# Altium schematic symbol library ICs.SchLib: 5 symbols
Pins are listed as number, name and electrical type; pins without a type are passive.

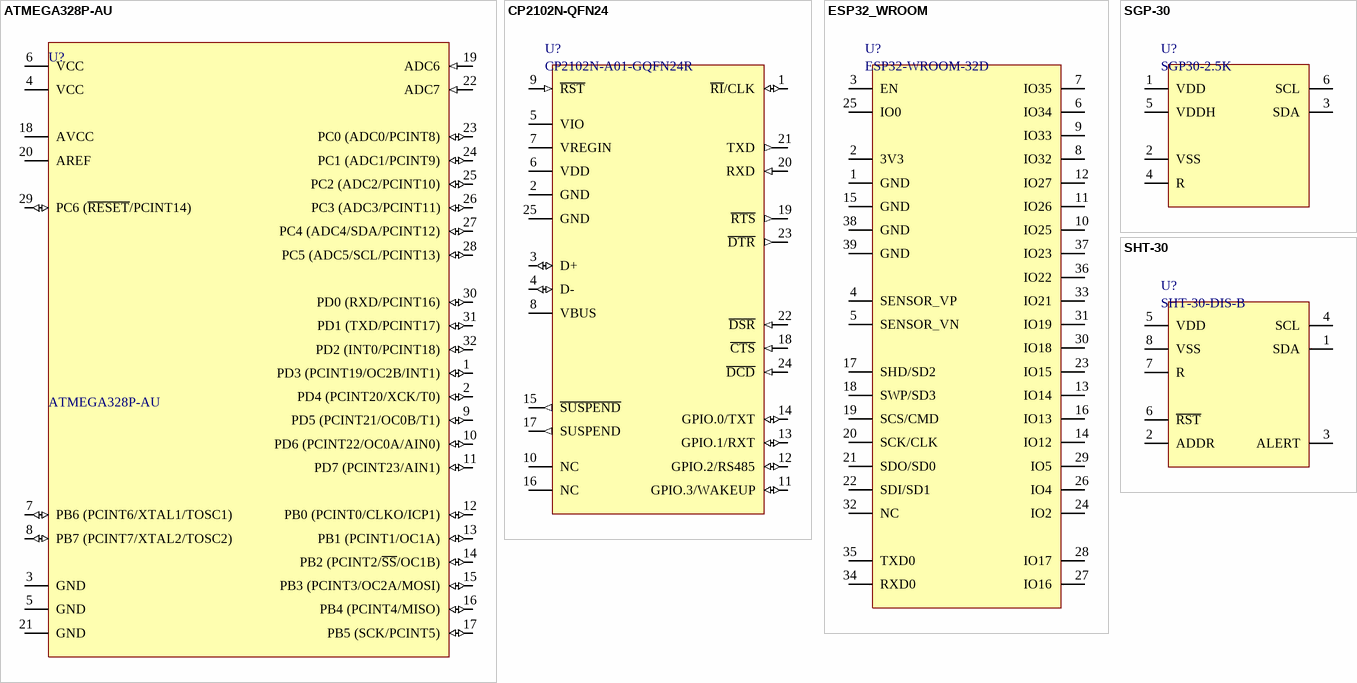
[diagram p0: symbols ATMEGA328P-AU to SHT-30]

## ATMEGA328P-AU
designator U?
footprint TQFP-32 (Thin QFP, 32-Leads, Body 7x7mm, Pitch 0.8mm, IPC Medium Density)
pins: 1 PD3 (PCINT19/OC2B/INT1) (io), 2 PD4 (PCINT20/XCK/T0) (io), 3 GND (power), 4 VCC (power), 5 GND (power), 6 VCC (power), 7 PB6 (PCINT6/XTAL1/TOSC1) (io), 8 PB7 (PCINT7/XTAL2/TOSC2) (io), 9 PD5 (PCINT21/OC0B/T1) (io), 10 PD6 (PCINT22/OC0A/AIN0) (io), 11 PD7 (PCINT23/AIN1) (io), 12 PB0 (PCINT0/CLKO/ICP1) (io), 13 PB1 (PCINT1/OC1A) (io), 14 PB2 (PCINT2/~{SS}/OC1B) (io), 15 PB3 (PCINT3/OC2A/MOSI) (io), 16 PB4 (PCINT4/MISO) (io), 17 PB5 (SCK/PCINT5) (io), 18 AVCC (power), 19 ADC6 (in), 20 AREF, 21 GND (power), 22 ADC7 (in), 23 PC0 (ADC0/PCINT8) (io), 24 PC1 (ADC1/PCINT9) (io), 25 PC2 (ADC2/PCINT10) (io), 26 PC3 (ADC3/PCINT11) (io), 27 PC4 (ADC4/SDA/PCINT12) (io), 28 PC5 (ADC5/SCL/PCINT13) (io), 29 PC6 (~{RESET}/PCINT14) (io), 30 PD0 (RXD/PCINT16) (io), 31 PD1 (TXD/PCINT17) (io), 32 PD2 (INT0/PCINT18) (io)

## CP2102N-QFN24
designator U?, comment CP2102N-A01-GQFN24R
BRIDGE USB TO UART 24QFN; Supplier 1: Digi-Key; Supplier Part Number 1: 336-4737-1-ND
footprint SLAB-QFN-24-2550x2550TP_A_V (QFN, 6-Leads, Body 4x4mm, Pitch 0.5mm, Thermal Pad 2.55x2.55mm)
pins: 1 ~{RI}/CLK (io), 2 GND (power) "Ground", 3 D+ (io) "USB Data Positive", 4 D- (io) "USB Data Negative", 5 VIO (power) "I/O Supply Power Input", 6 VDD (power) "Supply Power Input / 5V Regulator Output", 7 VREGIN (power) "5V Regulator Input", 8 VBUS (power) "Digital Input. VBUS Sense Input. This pin should be connected to the VBUS signal of a USB network. A 5 V signal on this pin indicates a USB network connection.", 9 ~{RST} (in) "Active-low Reset", 10 NC "No Connect (leave this pin floating).", 11 GPIO.3/WAKEUP (io) "Digital Output. This pin is driven low when the device enters the USB suspend state.", 12 GPIO.2/RS485 (io) "Ground", 13 GPIO.1/RXT (io) "Digital Input. Remote USB wakeup interrupt input.", 14 GPIO.0/TXT (io) "Digital Output. This pin is driven high when the device enters the USB suspend state", 15 ~{SUSPEND} (out) "Digital Output. This pin is driven low when the device enters the USB suspend state.", 16 NC "No Connect (leave this pin floating).", 17 SUSPEND (out) "Digital Output. This pin is driven high when the device enters the USB suspend state.", 18 ~{CTS} (in) "Digital Input. Clear To Send control input (active low).", 19 ~{RTS} (out) "Digital Output. Ready To Send control output (active low).", 20 RXD (in) "Digital Input. Asynchronous data input (UART Receive).", 21 TXD (out) "Digital Output. Asynchronous data output (UART Transmit).", 22 ~{DSR} (in) "Digital Input. Data Set Ready control input (active low).", 23 ~{DTR} (out) "Digital Output. Data Terminal Ready control output (active low).", 24 ~{DCD} (in) "Digital Input. Data Carrier Detect control input (active low).", 25 GND (power) "Ground"

## ESP32_WROOM
designator U?, comment ESP32-WROOM-32D
ESP32 Module; Supplier 1: Mouser; Supplier Part Number 1: 356-ESP32WROOM-32D
footprint ESP_WROOM_32D (ESP32 SoM)
pins: 1 GND "Ground", 2 3V3 "Power supply.", 3 EN "Chip-enable signal. Active high.", 4 SENSOR_VP "GPIO36, SENSOR_VP, ADC_H, ADC1_CH0, RTC_GPIO0", 5 SENSOR_VN "GPIO39, SENSOR_VN, ADC1_CH3, ADC_H, RTC_GPIO3", 6 IO34 "GPIO34, ADC1_CH6, RTC_GPIO4", 7 IO35 "GPIO35, ADC1_CH7, RTC_GPIO5", 8 IO32 "GPIO32, XTAL_32K_P (32.768 kHz crystal oscillator input), ADC1_CH4, TOUCH9, RTC_GPIO9", 9 IO33 "GPIO33, XTAL_32K_N (32.768 kHz crystal oscillator output), ADC1_CH5, TOUCH8, RTC_GPIO8", 10 IO25 "GPIO25, DAC_1, ADC2_CH8, RTC_GPIO6, EMAC_RXD0", 11 IO26 "GPIO26, DAC_2, ADC2_CH9, RTC_GPIO7, EMAC_RXD1", 12 IO27 "GPIO27, ADC2_CH7, TOUCH7, RTC_GPIO17, EMAC_RX_DV", 13 IO14 "GPIO14, ADC2_CH6, TOUCH6, RTC_GPIO16, MTMS, HSPICLK, HS2_CLK, SD_CLK, EMAC_TXD2", 14 IO12 "GPIO12, ADC2_CH5, TOUCH5, RTC_GPIO15, MTDI, HSPIQ, HS2_DATA2, SD_DATA2, EMAC_TXD3", 15 GND "Ground", 16 IO13 "GPIO13, ADC2_CH4, TOUCH4, RTC_GPIO14, MTCK, HSPID, HS2_DATA3, SD_DATA3, EMAC_RX_ER", 17 SHD/SD2 "GPIO9, SD_DATA2, SPIHD, HS1_DATA2, U1RXD", 18 SWP/SD3 "GPIO10, SD_DATA3, SPIWP, HS1_DATA3, U1TXD", 19 SCS/CMD "GPIO11, SD_CMD, SPICS0, HS1_CMD, U1RTS", 20 SCK/CLK "GPIO6, SD_CLK, SPICLK, HS1_CLK, U1CTS", 21 SDO/SD0 "GPIO7, SD_DATA0, SPIQ, HS1_DATA0, U2RTS", 22 SDI/SD1 "GPIO8, SD_DATA1, SPID, HS1_DATA1, U2CTS", 23 IO15 "GPIO15, ADC2_CH3, TOUCH3, MTDO, HSPICS0, RTC_GPIO13, HS2_CMD, SD_CMD, EMAC_RXD3", 24 IO2 "GPIO2, ADC2_CH2, TOUCH2, RTC_GPIO12, HSPIWP, HS2_DATA0, SD_DATA0", 25 IO0 "GPIO0, ADC2_CH1, TOUCH1, RTC_GPIO11, CLK_OUT1, EMAC_TX_CLK", 26 IO4 "GPIO4, ADC2_CH0, TOUCH0, RTC_GPIO10, HSPIHD, HS2_DATA1, SD_DATA1, EMAC_TX_ER", 27 IO16 "GPIO16, HS1_DATA4, U2RXD, EMAC_CLK_OUT", 28 IO17 "GPIO17, HS1_DATA5, U2TXD, EMAC_CLK_OUT_180", 29 IO5 "GPIO5, VSPICS0, HS1_DATA6, EMAC_RX_CLK", 30 IO18 "GPIO18, VSPICLK, HS1_DATA7", 31 IO19 "GPIO19, VSPIQ, U0CTS, EMAC_TXD0", 32 NC "Not connected", 33 IO21 "GPIO21, VSPIHD, EMAC_TX_EN", 34 RXD0 "GPIO3, U0RXD, CLK_OUT2", 35 TXD0 "GPIO1, U0TXD, CLK_OUT3, EMAC_RXD2", 36 IO22 "GPIO22, VSPIWP, U0RTS, EMAC_TXD1", 37 IO23 "GPIO23, VSPID, HS1_STROBE", 38 GND "Ground", 39 GND

## SGP-30
designator U?, comment SGP30-2.5K
SENSOR AIR QUALITY 2V I2C SMD; Supplier 1: Digi-Key; Supplier Part Number 1: 1649-1084-1-ND
footprint SGP30-2.5k (6-pin DFN package: 2.45 x 2.45 x 0.9 mm)
pins: 1 VDD "1.62-1.98V, 1.8V nominal", 2 VSS "Ground", 3 SDA "Serial data", 4 R "No function. Connect to ground.", 5 VDDH "Supply voltage hot plate. 1.62-1.98V, 1.8V nominal", 6 SCL "Supply voltage hot plate. 1.62-1.98V, 1.8V nominal"

## SHT-30
designator U?, comment SHT-30-DIS-B
SENSOR HUMID/TEMP 5V I2C 3% SMD; Supplier 1: Digi-Key; Supplier Part Number 1: 1649-1009-1-ND
footprint SHT3x_8-VFDFN_Exposed_Pad (Sensirion SHT3x 8-DFN)
pins: 1 SDA, 2 ADDR, 3 ALERT "Alarm interrupt output, leave floating if unused", 4 SCL "Serial clock", 5 VDD "2.15-5.5V, nominal 3v3", 6 ~{RST} "Active low reset. Float if unused or pullup with >2kOhm.", 7 R "No function, connect to VSS.", 8 VSS "Ground"